# Altium footprint library DPAK6P114_998X235L100X60T534X570N.PcbLib: 1 footprints
Each footprint in its own frame and in the unit in brackets; x right, y up, seen from the top. Pads: shape width x height; smd on the part's side, far side on the other; paste and mask are expansions set on the pad; w line width, h text height; cw(c..) or ccw(c..) is an arc to the next point about the centre after c.
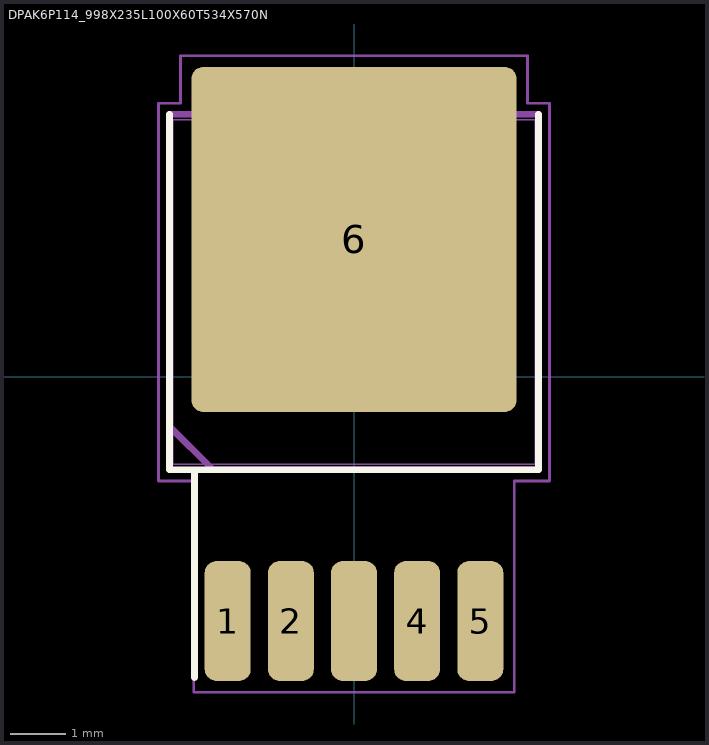
[diagram p0: the footprint, top view; thin cyan lines are the x and y axes]

## DPAK6P114_998X235L100X60T534X570N [mm] "DPAK, 1.14 mm pitch; 5 pin, 6.22 mm L X 6.55 mm W X 2.35 mm H body"
height 2.35
pads (6):
  rrect51% 0.83x2.17 smd: 1(-2.28,-4.41) 2(-1.14,-4.41) 4(1.14,-4.41) 5(2.28,-4.41) ""(0,-4.41)
  rrect7% 5.87x6.23 smd paste-6.23: 6(0,2.48)
Top Overlay:
  lines w0.12: -3.33,4.74 -3.33,-1.68 3.33,-1.68 3.33,4.74 ; -2.88,-5.43 -2.88,-1.68
Top Paste:
  region: -1.275,3.815 -2.645,3.815 -2.645,5.305 -1.275,5.305
  region: -1.275,1.735 -2.645,1.735 -2.645,3.225 -1.275,3.225
  region: -1.275,-0.345 -2.645,-0.345 -2.645,1.145 -1.275,1.145
  region: 0.685,3.815 -0.685,3.815 -0.685,5.305 0.685,5.305
  region: 0.685,1.735 -0.685,1.735 -0.685,3.225 0.685,3.225
  region: 0.685,-0.345 -0.685,-0.345 -0.685,1.145 0.685,1.145
  region: 2.645,3.815 1.275,3.815 1.275,5.305 2.645,5.305
  region: 2.645,1.735 1.275,1.735 1.275,3.225 2.645,3.225
  region: 2.645,-0.345 1.275,-0.345 1.275,1.145 2.645,1.145
Mechanical 3:
  lines w0.12: -3.33,-0.895 -2.545,-1.68 3.33,-1.68 3.33,4.74 -3.33,4.74 -3.33,-0.895
Mechanical 5:
  lines w0.025: -3.275,-1.58 3.275,-1.58 3.275,4.64 -3.275,4.64 -3.275,-1.58 ; -2.85,-0.35 -2.85,4.99 2.85,4.99 2.85,-0.35 -2.85,-0.35 ; -2.58,-4.99 -2.58,-3.99 -1.98,-3.99 -1.98,-4.99 -2.58,-4.99 ; -1.44,-4.99 -1.44,-3.99 -0.84,-3.99 -0.84,-4.99 -1.44,-4.99 ; -0.3,-4.99 -0.3,-3.99 0.3,-3.99 0.3,-4.99 -0.3,-4.99 ; 0.84,-4.99 0.84,-3.99 1.44,-3.99 1.44,-4.99 0.84,-4.99 ; 1.98,-4.99 1.98,-3.99 2.58,-3.99 2.58,-4.99 1.98,-4.99
Mechanical 7:
  circle w0.05: c0,0 r0.25
  lines w0.05: -0.35,0 0.35,0 ; 0,-0.35 0,0.35 ; -3.53,-1.88 -2.895,-1.88 -2.895,-5.695 2.895,-5.695 2.895,-1.88 3.53,-1.88 3.53,4.94 3.135,4.94 3.135,5.795 -3.135,5.795 -3.135,4.94 -3.53,4.94 -3.53,-1.88
Mechanical 9:
  text "'.Designator'" at -5.005,-1.029 h1
3D body: height 0, standoff 0, extent -3.525,-5.7 3.525,5.8
3D body "DPAK6P114_998X235L100X60T534X570.STEP": height 2.35, standoff 0, extent -3.275,-4.99 3.275,4.99
3D body: height 1.04, standoff 0, extent -3.53,-5.695 3.53,5.795